# EAGLE library part LM13700M (library ZOMGTHEREMINBBQLOL)
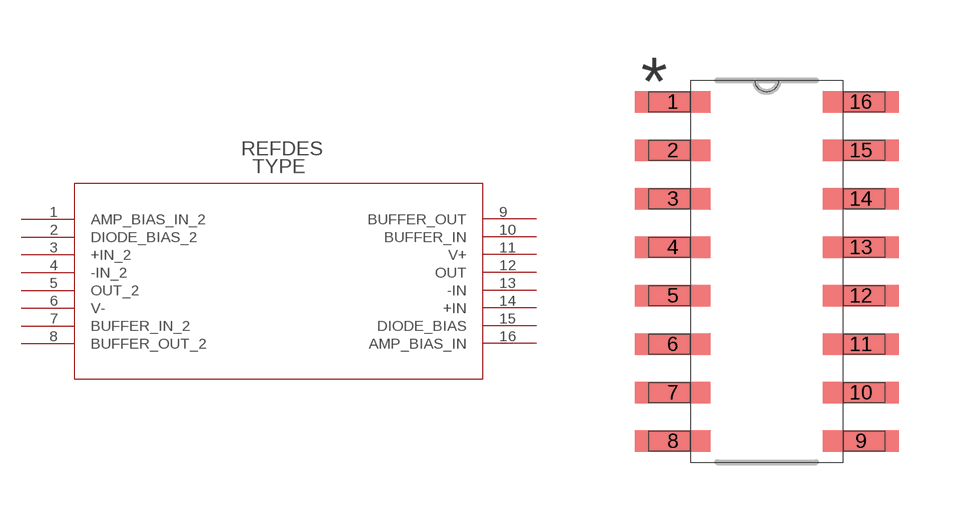
[diagram p0: symbol with the pads of M16A; footprint M16A]

Designator prefix U

## LM13700M  [M16A]
1  AMP_BIAS_IN_2  pas
2  DIODE_BIAS_2  pas
3  +IN_2  pas
4  -IN_2  pas
5  OUT_2  pas
6  V-  pas
7  BUFFER_IN_2  pas
8  BUFFER_OUT_2  pas
9  BUFFER_OUT  pas
10  BUFFER_IN  pas
11  V+  pas
12  OUT  pas
13  -IN  pas
14  +IN  pas
15  DIODE_BIAS  pas
16  AMP_BIAS_IN  pas

## Footprint M16A (pad centres in mm)
smd 1.981 x 0.559: 1 -2.464,4.445; 2 -2.464,3.175; 3 -2.464,1.905; 4 -2.464,0.635; 5 -2.464,-0.635; 6 -2.464,-1.905; 7 -2.464,-3.175; 8 -2.464,-4.445; 9 2.464,-4.445; 10 2.464,-3.175; 11 2.464,-1.905; 12 2.464,-0.635; 13 2.464,0.635; 14 2.464,1.905; 15 2.464,3.175; 16 2.464,4.445